# Altium footprint library MODULE_RF_WIRELESS.PcbLib: 20 footprints (part 2 of 2)
Each footprint in its own frame and in the unit in brackets; x right, y up, seen from the top. Pads: shape width x height; smd on the part's side, far side on the other; paste and mask are expansions set on the pad; w line width, h text height; cw(c..) or ccw(c..) is an arc to the next point about the centre after c.
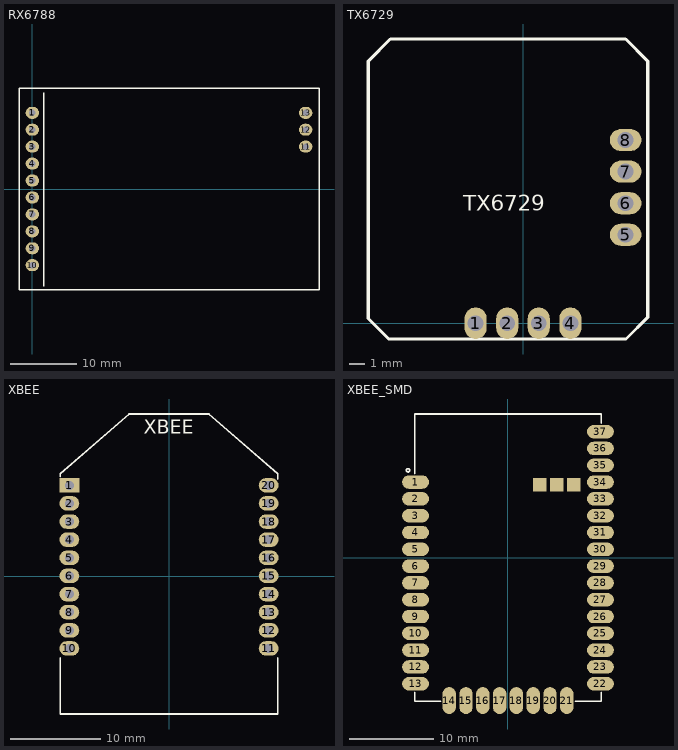
[diagram p1: the footprints below, top view; thin cyan lines are the x and y axes]

## RX6788 [mm]
pads (13):
  oval 2x1.8 hole 1: 1(0,11.43) 2(0,8.89) 3(0,6.35) 4(0,3.81) 5(0,1.27) 6(0,-1.27) 7(0,-3.81) 8(0,-6.35) 9(0,-8.89) 10(0,-11.43) 11(41,6.35) 12(41,8.89) 13(41,11.43)
Top Overlay:
  lines w0.2: 1.683,-14.57 1.683,-12.395 1.683,11.989 1.683,14.43 ; -2,-15.1 -2,15.1 43,15.1 43,-15.1 -2,-15.1

## TX6729 [mm]
pads (8):
  oval 1.4x2 hole 1: 1(-3,0) 2(-1,0) 3(1,0) 4(3,0)
  oval 2x1.4 hole 1: 5(6.5,5.6) 6(6.5,7.6) 7(6.5,9.6) 8(6.5,11.6)
Top Overlay:
  lines w0.2: -9.8,0.298 -9.8,16.6 -8.4,18 6.5,18 7.9,16.6 7.9,0.38 6.52,-1 -8.502,-1 -9.8,0.298
  text "TX6729" at -3.785,7.11 h1

## XBEE [mm] "XBEE MODULE digi.com, XBEE, XBEE PRO"
pads (20):
  rect 2.2x1.6 hole 1: 1(-11,10.033)
  oval 2.2x1.6 hole 1: 2(-11,8.033) 3(-11,6.033) 4(-11,4.033) 5(-11,2.033) 6(-11,0.033) 7(-11,-1.967) 8(-11,-3.967) 9(-11,-5.967) 10(-11,-7.967) 11(11,-7.967) 12(11,-5.967) 13(11,-3.967) 14(11,-1.967) 15(11,0.033) 16(11,2.033) 17(11,4.033) 18(11,6.033) 19(11,8.033) 20(11,10.033)
Top Overlay:
  lines w0.2: -12,-9 -12,-15.2 12,-15.2 12,-9 ; -12,11 -12,11.3 -4.4,17.9 4.4,17.9 12,11.3 12,10.7
  text "XBEE" at -2.794,15.748 h1.52
3D body "User Library-XBeeProS1.step": height 15.5, standoff -1.06, extent -11.865,-15.148 11.865,17.792

## XBEE_SMD [mm] "XBEE SMD MODULE digi.com"
height 1
pads (40):
  oval 3.2x1.6 smd: 1(-11,9) 2(-11,7) 3(-11,5) 4(-11,3) 5(-11,1) 6(-11,-1) 7(-11,-3) 8(-11,-5) 9(-11,-7) 10(-11,-9) 11(-11,-11) 12(-11,-13) 13(-11,-15) 22(11,-15) 23(11,-13) 24(11,-11) 25(11,-9) 26(11,-7) 27(11,-5) 28(11,-3) 29(11,-1) 30(11,1) 31(11,3) 32(11,5) 33(11,7) 34(11,9) 35(11,11) 36(11,13) 37(11,15)
  oval 1.6x3.2 smd: 14(-7,-17) 15(-5,-17) 16(-3,-17) 17(-1,-17) 18(1,-17) 19(3,-17) 20(5,-17) 21(7,-17)
  rect 1.6x1.6 smd: ""(3.8,8.7) ""(5.8,8.7) ""(7.8,8.7)
Top Overlay:
  circle w0.2: c-11.9,10.4 r0.2
  lines w0.2: -11.1,-16 -11.1,-17.1 -8,-17.1 ; -11.1,10 -11.1,17.1 11.1,17.1 11.1,16 ; 8,-17.1 11.1,-17.1 11.1,-16
3D body "User Library-XBee SMT-1.step": height 3.06, standoff 0, extent -10.998,-17.05 10.998,16.732